# EAGLE library part MTK-3329 (library sensors)
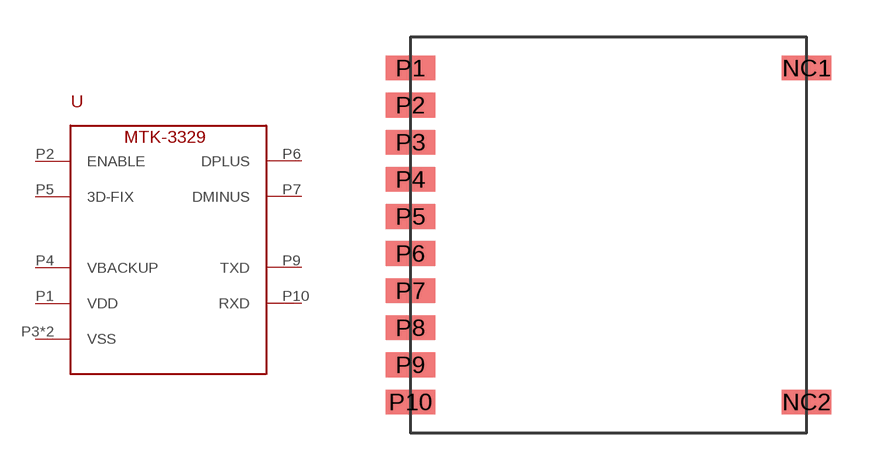
[diagram p3: symbol with the pads of MTK-3329; footprint MTK-3329]

Designator prefix -

## MTK-3329  [MTK-3329]
P1  VDD
P2  ENABLE
P3  VSS
P4  VBACKUP
P5  3D-FIX
P6  DPLUS
P7  DMINUS
P8  VSS
P9  TXD
P10  RXD

## Footprint MTK-3329 (pad centres in mm)
smd 2 x 1: NC1 8,6.75; NC2 8,-6.75; P1 -8,6.75; P2 -8,5.25; P3 -8,3.75; P4 -8,2.25; P5 -8,0.75; P6 -8,-0.75; P7 -8,-2.25; P8 -8,-3.75; P9 -8,-5.25; P10 -8,-6.75